# EAGLE library part TPS628112AQWRWYRQ1 (library TI_1V8_Vreg_comp)
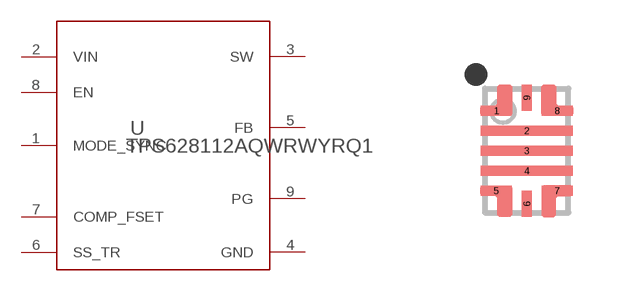
[diagram p0: symbol with the pads of RWY0009A; footprint RWY0009A]

Designator prefix U

## TPS628112AQWRWYRQ1 (MANUFACTURER: Texas Instruments; PARTNUMBER: TPS628112AQWRWYRQ1; REFDES: RefDes; TYPE: TYPE; VALUE: Value)  [RWY0009A]
1  MODE_SYNC  in
2  VIN  pwr
3  SW  pwr
4  GND  pwr
5  FB  in
6  SS_TR  in
7  COMP_FSET  in
8  EN  in
9  PG  oc

## Footprint RWY0009A (pad centres in mm)
smd 0.775 x 0.25: 1 -0.761,1; 5 -0.761,-1; 7 0.761,-1; 8 0.761,1
smd 2.3 x 0.25: 2 0,0.5; 3 0,0; 4 0,-0.5
smd 0.25 x 0.65: 6 0,-1.325; 9 0,1.325